# Altium schematic symbol library TPS7A20285PDBVR.SchLib: 1 symbol
Pins are listed as number, name and electrical type; pins without a type are passive.

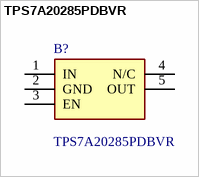
[diagram p0: symbol TPS7A20285PDBVR]

## TPS7A20285PDBVR
designator B?
LDO Voltage Regulators 300-mA, ultra-low-noise, low-IQ, low-dropout (LDO) linear regulator with high PSRR; Manufacturer_Name: Texas Instruments; Geometry.Height: 1.45mm; Mouser Part Number: 595-TPS7A20285PDBVR; Mouser Price/Stock: https://www.mouser.co.uk/ProductDetail/Texas-Instruments/TPS7A20285PDBVR?qs=Jslch3jnSjk9qDduT6KLyw%3D%3D; Manufacturer_Part_Number: TPS7A20285PDBVR; Datasheet Link: https://www.ti.com/general/docs/suppproductinfo.tsp?distId=26&gotoUrl=https://www.ti.com/lit/gpn/tps7a20
footprint SOT95P280X145-5N
pins: 1 IN, 2 GND, 3 EN, 4 N/C, 5 OUT